# Altium footprint library Diodes.PcbLib: 14 footprints
Each footprint in its own frame and in the unit in brackets; x right, y up, seen from the top. Pads: shape width x height; smd on the part's side, far side on the other; paste and mask are expansions set on the pad; w line width, h text height; cw(c..) or ccw(c..) is an arc to the next point about the centre after c.
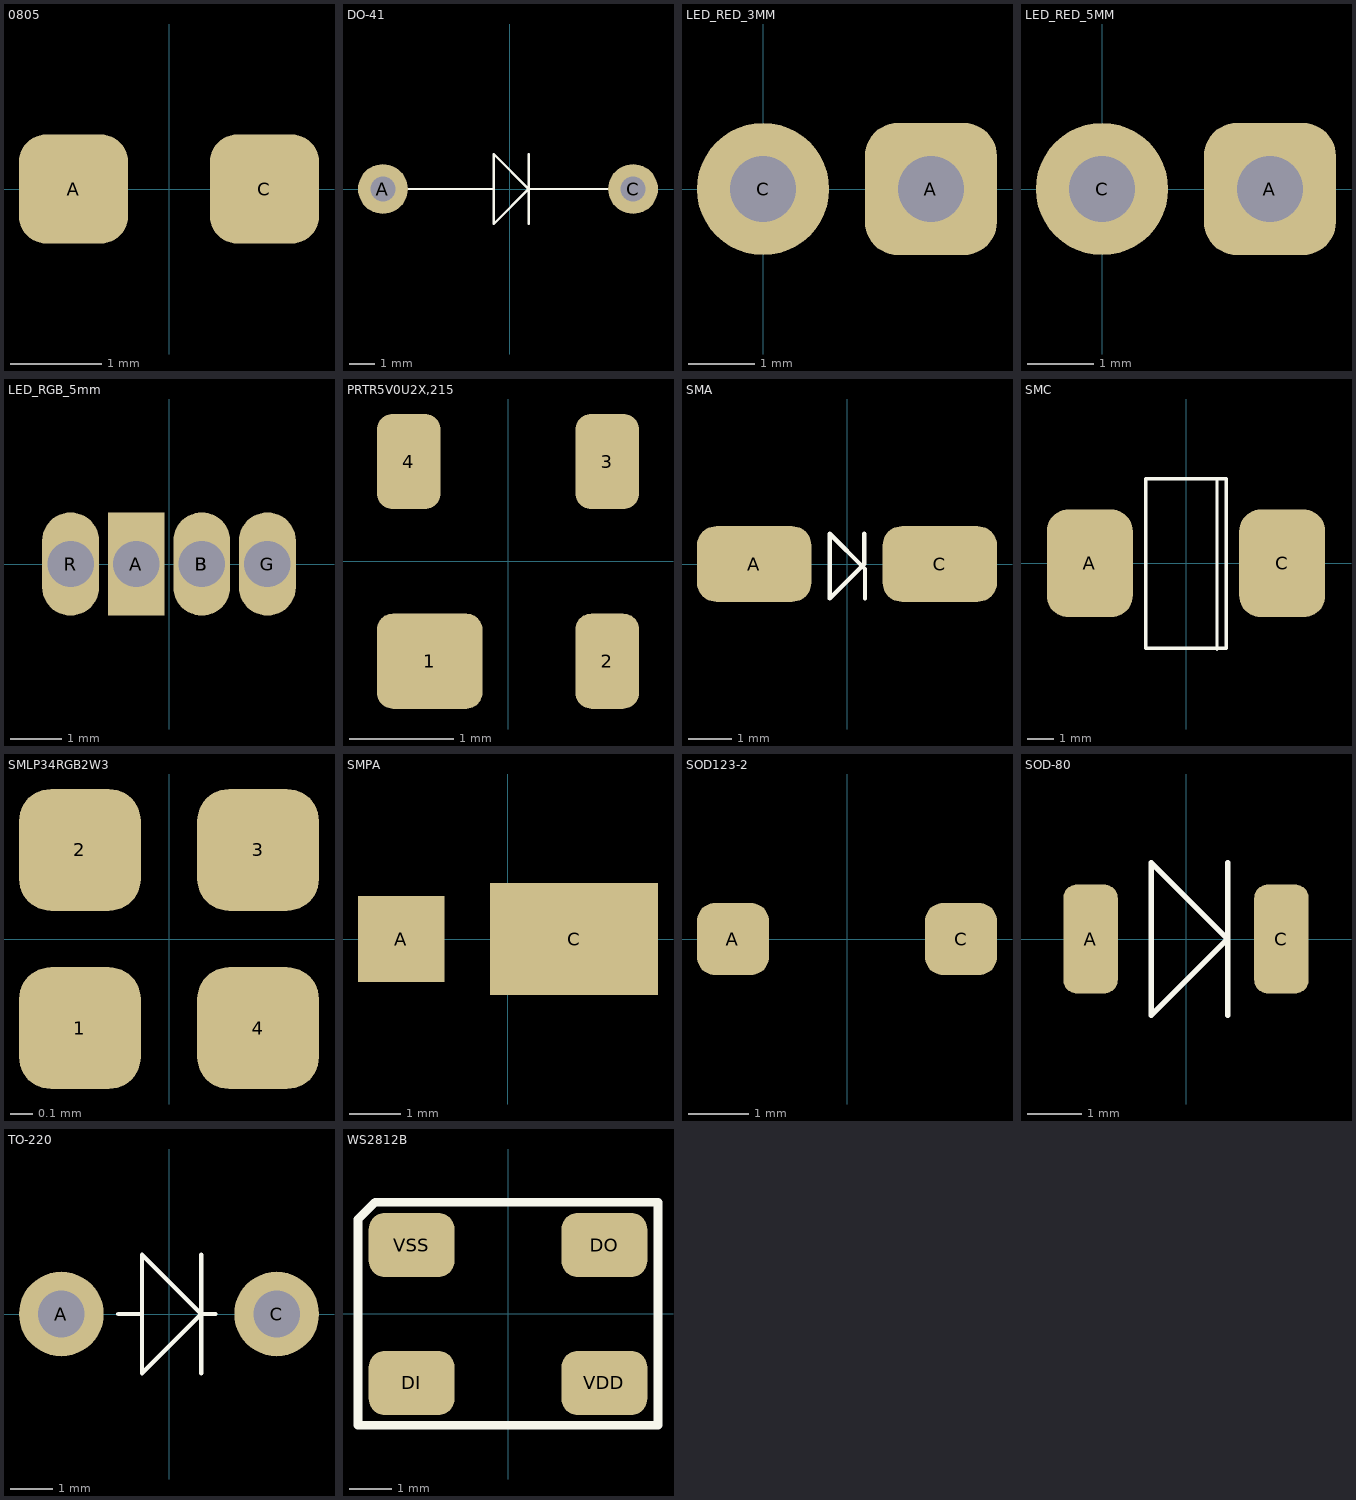
[diagram p0: the footprints below, top view; thin cyan lines are the x and y axes]

## 0805 [mm] "0805"
pads (2):
  rrect50% 1.2x1.2 smd: A(-1.05,0) C(1.05,0)
3D body "LED SMD0805.step": height 0.85, standoff 0.01, extent -1.041,-0.446 1.022,0.46

## DO-41 [mm] "DO-41"
pads (2):
  round 2 hole 1: A(-5.08,0) C(4.953,0)
Top Overlay:
  lines w0.1: -5.08,0 -0.635,0 ; 0.762,-1.397 0.762,0 ; 0.762,1.397 0.762,0 ; 3.937,0 0.762,0 ; -0.635,0 -0.635,1.397 0.762,0 ; -0.635,0 -0.635,-1.397 0.762,0
3D body "DO-41.step": height 2.73, standoff -2.6, extent -5.512,-1.37 5.512,1.37

## LED_RED_3MM [mm] "LED_RED_3MM"
pads (2):
  rrect50% 2x2 / inner round 1.524 / far side round 1.524 hole 1: A(2.54,0)
  round 2 / inner round 1.524 / far side round 1.524 hole 1: C(0,0)
3D body "LED 3mm RED.STEP": height 27.5, standoff -3, extent -0.33,-1.6 2.87,1.6

## LED_RED_5MM [mm] "LED_RED_5MM"
pads (2):
  rrect50% 2x2 hole 1: A(2.54,0)
  round 2 hole 1: C(0,0)
3D body "LED D5 - Red.step": height 30.6, standoff -4.4, extent -1.201,-2.977 4.249,2.921

## LED_RGB_5mm [mm] "LED_RGB_5mm"
pads (5):
  rect 1.1x2 hole 0.9: A(-0.635,0)
  oval 1.1x2 hole 0.9: B(0.635,0) G(1.905,0) R(-1.905,0)
  oval 1x2 hole 0.9: B(0.635,0)
3D body "Led RGB 5mm.STEP": height 31.8, standoff -4, extent -2.888,-2.9 2.7,2.9

## PRTR5V0U2X,215 [mm] "PRTR5V0U2X,215"
pads (4):
  rrect33% 1.01x0.91 smd paste+0 mask+0: 1(-0.75,-0.955)
  rrect49% 0.61x0.91 smd paste+0 mask+0: 2(0.95,-0.955) 3(0.95,0.955) 4(-0.95,0.955)
3D body "PRTR5V0U2X.stp": height 1, standoff 0, extent -1.449,-1.154 1.45,1.154

## SMA [mm] "SMA"
pads (2):
  rrect50% 2.65x1.75 smd: A(-2.15,0) C(2.15,0)
Top Overlay:
  lines w0.1: 0.4,0.7 0.4,0 -0.4,-0.8 -0.4,-0.235 -0.4,0.7 0.416,-0.116 0.416,-0.315 0.416,-0.8
3D body "DO-214AC SMA.step": height 2.4, standoff 0, extent -2.6,-1.3 2.6,1.3

## SMC [mm] "SMC"
pads (2):
  rrect50% 3.2x4 smd: A(-3.575,0) C(3.575,0)
Top Overlay:
  lines w0.1: 1.15,-3.2 1.15,3.05
  lines w0.127: -1.5,-3.15 -1.5,3.15 1.5,3.15 1.5,-3.15 -1.5,-3.15
3D body "User Library-DO-214AB(SMC).step": height 2.67, standoff 0.03, extent -4.064,-3.15 4.064,3.15

## SMLP34RGB2W3 [mm] "SMLP34RGB2W3"
pads (4):
  rrect52% 0.54x0.54 smd mask+0.05: 1(-0.395,-0.395) 2(-0.395,0.395) 3(0.395,0.395) 4(0.395,-0.395)
3D body "SMLP34RGB.stp": height 0.2, standoff 0, extent -0.5,-0.5 0.5,0.5

## SMPA [mm] "SMPA"
pads (2):
  rect 1.7x1.7 smd: A(-2.1,0)
  rect 3.3x2.2 smd: C(1.3,0)
3D body "SMPA.STEP": height 0.95, standoff 0, extent -2.6,-1.3 2.6,1.3

## SOD123-2 [mm] "SOD123-2"
pads (2):
  rrect50% 1.2x1.2 smd: A(-1.9,0) C(1.9,0)
3D body "SOD-123.step": height 1.42, standoff -0.03, extent -1.925,-0.85 1.925,0.85

## SOD-80 [mm] "SOD-80"
pads (2):
  rrect50% 1x2 smd: A(-1.75,0) C(1.75,0)
Top Overlay:
  lines w0.1: 0.762,-1.397 0.762,0 ; 0.762,1.397 0.762,0 ; 0.762,0 -0.635,1.397 -0.635,0 -0.635,-1.397 0.762,0
3D body "SOD-80.step": height 1.6, standoff 0, extent -1.82,-0.8 1.88,0.8

## TO-220 [mm] "TO-220"
pads (2):
  round 2 hole 1.1: A(-2.54,0) C(2.54,0)
Top Overlay:
  lines w0.1: -1.2,0 -0.635,0 ; 0.762,-1.397 0.762,0 ; 0.762,1.397 0.762,0 ; 1.1,0 0.762,0 ; -0.635,0 -0.635,1.397 0.762,0 ; -0.635,0 -0.635,-1.397 0.762,0
3D body "TO-220 2pins short V1.stp": height 19.11, standoff -3, extent -5.942,-1.75 5.942,2.65

## WS2812B [mm] "WS2812B"
pads (4):
  rrect50% 2x1.5 smd: DI(-2.25,-1.618) DO(2.25,1.6) VDD(2.25,-1.618) VSS(-2.25,1.6)
Top Overlay:
  lines w0.2: -3.5,2.2 -3.1,2.6 ; -3.5,2.2 -3.5,-2.6 3.5,-2.6 3.5,2.6 -3.1,2.6 ; -3.5,2.2 -3.1,2.6
3D body "WS2812.stp": height 1.7, standoff 0, extent -2.675,-2.475 2.675,2.475